# Altium integrated library con-vg.IntLib: 123 symbols (part 5 of 5)

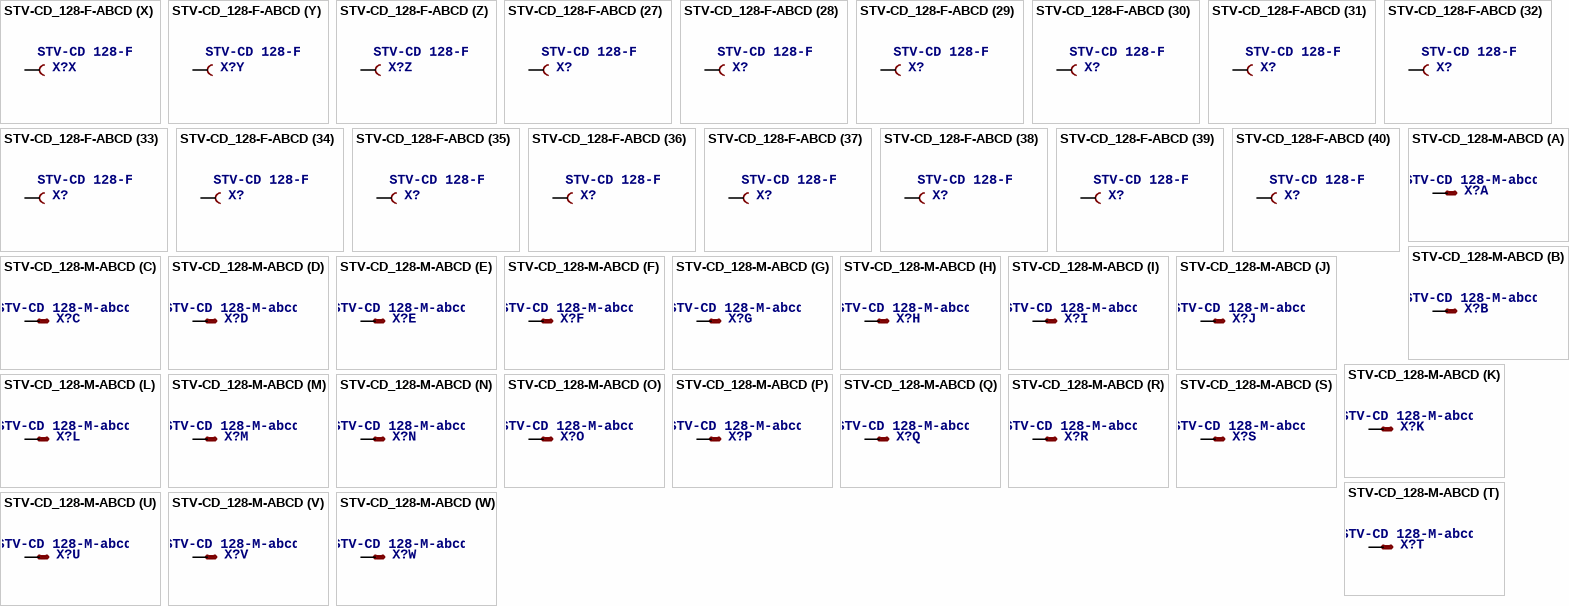
[diagram p92: symbols STV-CD_128-F-ABCD to STV-CD_128-M-ABCD]

## STV-CD_128-F-ABCD
designator X?, comment STV-CD 128-F-abcd   Source: http://www.erni.com/DB/PDF/DIN/ERNI-DIN-HighDensity.pdf
footprint STV-CD_128-F-ABCD
part A pins: A1 B
part B pins: A2 B
part C pins: A3 B
part D pins: A4 B
part E pins: A5 B
part F pins: A6 B
part G pins: A7 B
part H pins: A8 B
part I pins: A9 B
part J pins: A10 B
part K pins: A11 B
part L pins: A12 B
part M pins: A13 B
part N pins: A14 B
part O pins: A15 B
part P pins: A16 B
part Q pins: A17 B
part R pins: A18 B
part S pins: A19 B
part T pins: A20 B
part U pins: A21 B
part V pins: A22 B
part W pins: A23 B
part X pins: A24 B
part Y pins: A25 B
part Z pins: A26 B
part 27 pins: A27 B
part 28 pins: A28 B
part 29 pins: A29 B
part 30 pins: A30 B
part 31 pins: A31 B
part 32 pins: A32 B
part 33 pins: B1 B
part 34 pins: B2 B
part 35 pins: B3 B
part 36 pins: B4 B
part 37 pins: B5 B
part 38 pins: B6 B
part 39 pins: B7 B
part 40 pins: B8 B
part 41 pins: B9 B
part 42 pins: B10 B
part 43 pins: B11 B
part 44 pins: B12 B
part 45 pins: B13 B
part 46 pins: B14 B
part 47 pins: B15 B
part 48 pins: B16 B
part 49 pins: B17 B
part 50 pins: B18 B
part 51 pins: B19 B
part 52 pins: B20 B
part 53 pins: B21 B
part 54 pins: B22 B
part 55 pins: B23 B
part 56 pins: B24 B
part 57 pins: B25 B
part 58 pins: B26 B
part 59 pins: B27 B
part 60 pins: B28 B
part 61 pins: B29 B
part 62 pins: B30 B
part 63 pins: B31 B
part 64 pins: B32 B
part 65 pins: C1 B
part 66 pins: C2 B
part 67 pins: C3 B
part 68 pins: C4 B
part 69 pins: C5 B
part 70 pins: C6 B
part 71 pins: C7 B
part 72 pins: C8 B
part 73 pins: C9 B
part 74 pins: C10 B
part 75 pins: C11 B
part 76 pins: C12 B
part 77 pins: C13 B
part 78 pins: C14 B
part 79 pins: C15 B
part 80 pins: C16 B
part 81 pins: C17 B
part 82 pins: C18 B
part 83 pins: C19 B
part 84 pins: C20 B
part 85 pins: C21 B
part 86 pins: C22 B
part 87 pins: C23 B
part 88 pins: C24 B
part 89 pins: C25 B
part 90 pins: C26 B
part 91 pins: C27 B
part 92 pins: C28 B
part 93 pins: C29 B
part 94 pins: C30 B
part 95 pins: C31 B
part 96 pins: C32 B
part 97 pins: D1 B
part 98 pins: D2 B
part 99 pins: D3 B
part 100 pins: D4 B
part 101 pins: D5 B
part 102 pins: D6 B
part 103 pins: D7 B
part 104 pins: D8 B
part 105 pins: D9 B
part 106 pins: D10 B
part 107 pins: D11 B
part 108 pins: D12 B
part 109 pins: D13 B
part 110 pins: D14 B
part 111 pins: D15 B
part 112 pins: D16 B
part 113 pins: D17 B
part 114 pins: D18 B
part 115 pins: D19 B
part 116 pins: D20 B
part 117 pins: D21 B
part 118 pins: D22 B
part 119 pins: D23 B
part 120 pins: D24 B
part 121 pins: D25 B
part 122 pins: D26 B
part 123 pins: D27 B
part 124 pins: D28 B
part 125 pins: D29 B
part 126 pins: D30 B
part 127 pins: D31 B
part 128 pins: D32 B

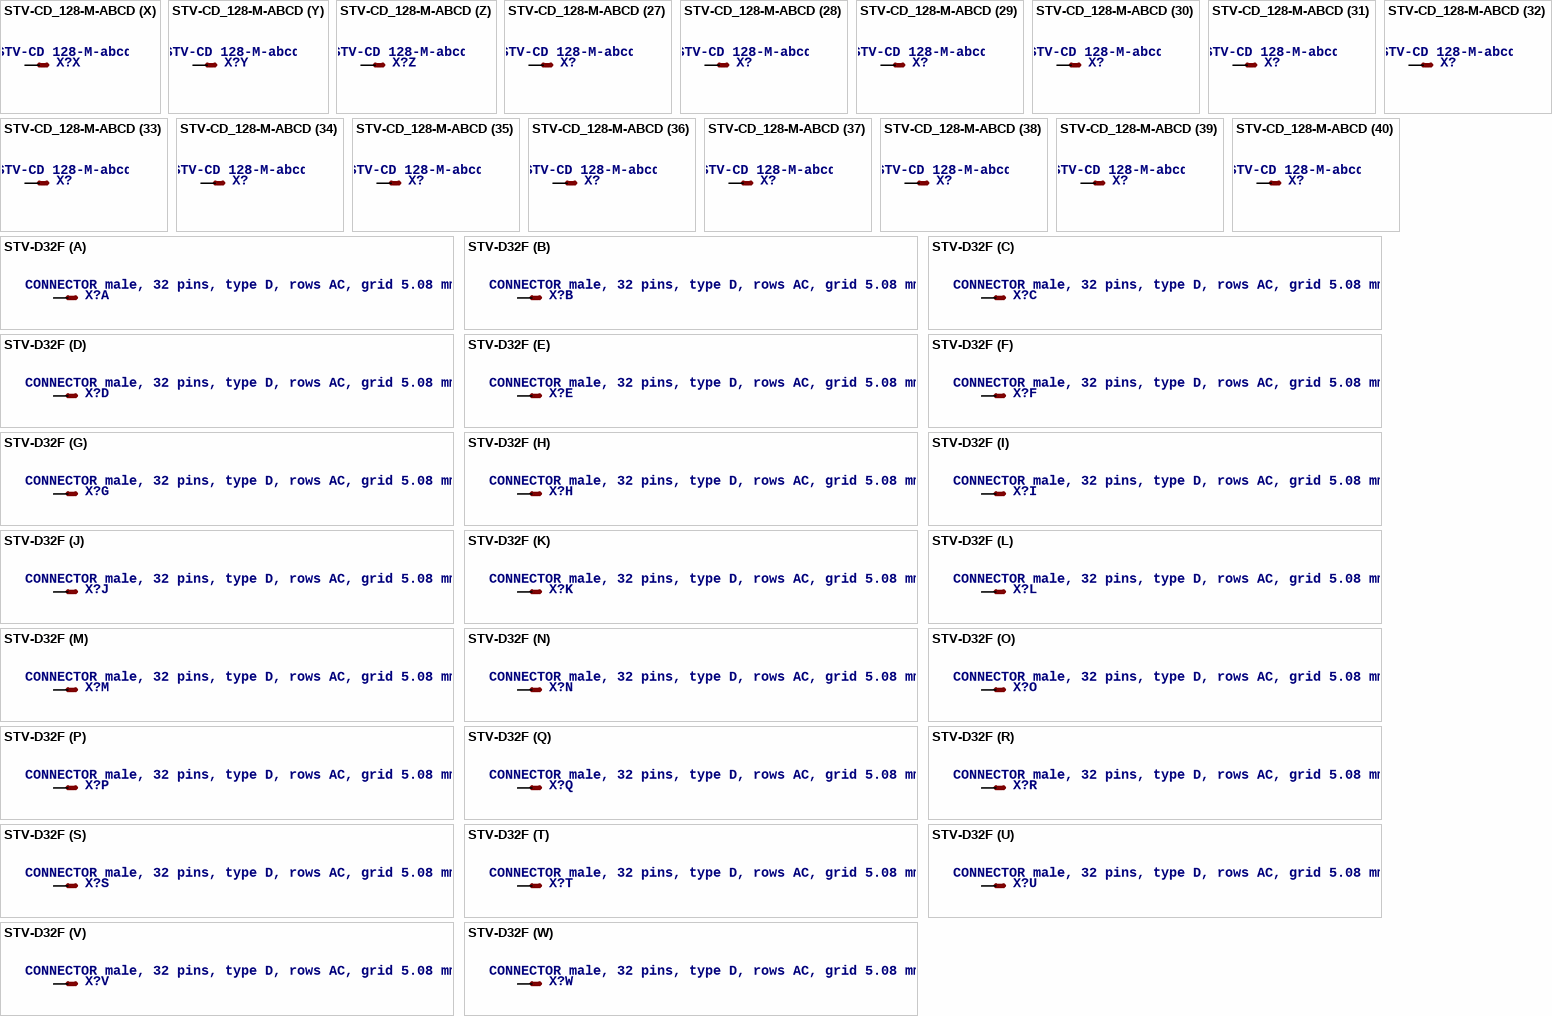
[diagram p93: symbols STV-CD_128-M-ABCD to STV-D32F]

## STV-CD_128-M-ABCD
designator X?, comment STV-CD 128-M-abcd   Source: http://www.erni.com/DB/PDF/DIN/ERNI-DIN-HighDensity.pdf
footprint STV-CD_128-M-ABCD
part A pins: A1 S
part B pins: A2 S
part C pins: A3 S
part D pins: A4 S
part E pins: A5 S
part F pins: A6 S
part G pins: A7 S
part H pins: A8 S
part I pins: A9 S
part J pins: A10 S
part K pins: A11 S
part L pins: A12 S
part M pins: A13 S
part N pins: A14 S
part O pins: A15 S
part P pins: A16 S
part Q pins: A17 S
part R pins: A18 S
part S pins: A19 S
part T pins: A20 S
part U pins: A21 S
part V pins: A22 S
part W pins: A23 S
part X pins: A24 S
part Y pins: A25 S
part Z pins: A26 S
part 27 pins: A27 S
part 28 pins: A28 S
part 29 pins: A29 S
part 30 pins: A30 S
part 31 pins: A31 S
part 32 pins: A32 S
part 33 pins: B1 S
part 34 pins: B2 S
part 35 pins: B3 S
part 36 pins: B4 S
part 37 pins: B5 S
part 38 pins: B6 S
part 39 pins: B7 S
part 40 pins: B8 S
part 41 pins: B9 S
part 42 pins: B10 S
part 43 pins: B11 S
part 44 pins: B12 S
part 45 pins: B13 S
part 46 pins: B14 S
part 47 pins: B15 S
part 48 pins: B16 S
part 49 pins: B17 S
part 50 pins: B18 S
part 51 pins: B19 S
part 52 pins: B20 S
part 53 pins: B21 S
part 54 pins: B22 S
part 55 pins: B23 S
part 56 pins: B24 S
part 57 pins: B25 S
part 58 pins: B26 S
part 59 pins: B27 S
part 60 pins: B28 S
part 61 pins: B29 S
part 62 pins: B30 S
part 63 pins: B31 S
part 64 pins: B32 S
part 65 pins: C1 S
part 66 pins: C2 S
part 67 pins: C3 S
part 68 pins: C4 S
part 69 pins: C5 S
part 70 pins: C6 S
part 71 pins: C7 S
part 72 pins: C8 S
part 73 pins: C9 S
part 74 pins: C10 S
part 75 pins: C11 S
part 76 pins: C12 S
part 77 pins: C13 S
part 78 pins: C14 S
part 79 pins: C15 S
part 80 pins: C16 S
part 81 pins: C17 S
part 82 pins: C18 S
part 83 pins: C19 S
part 84 pins: C20 S
part 85 pins: C21 S
part 86 pins: C22 S
part 87 pins: C23 S
part 88 pins: C24 S
part 89 pins: C25 S
part 90 pins: C26 S
part 91 pins: C27 S
part 92 pins: C28 S
part 93 pins: C29 S
part 94 pins: C30 S
part 95 pins: C31 S
part 96 pins: C32 S
part 97 pins: D1 S
part 98 pins: D2 S
part 99 pins: D3 S
part 100 pins: D4 S
part 101 pins: D5 S
part 102 pins: D6 S
part 103 pins: D7 S
part 104 pins: D8 S
part 105 pins: D9 S
part 106 pins: D10 S
part 107 pins: D11 S
part 108 pins: D12 S
part 109 pins: D13 S
part 110 pins: D14 S
part 111 pins: D15 S
part 112 pins: D16 S
part 113 pins: D17 S
part 114 pins: D18 S
part 115 pins: D19 S
part 116 pins: D20 S
part 117 pins: D21 S
part 118 pins: D22 S
part 119 pins: D23 S
part 120 pins: D24 S
part 121 pins: D25 S
part 122 pins: D26 S
part 123 pins: D27 S
part 124 pins: D28 S
part 125 pins: D29 S
part 126 pins: D30 S
part 127 pins: D31 S
part 128 pins: D32 S

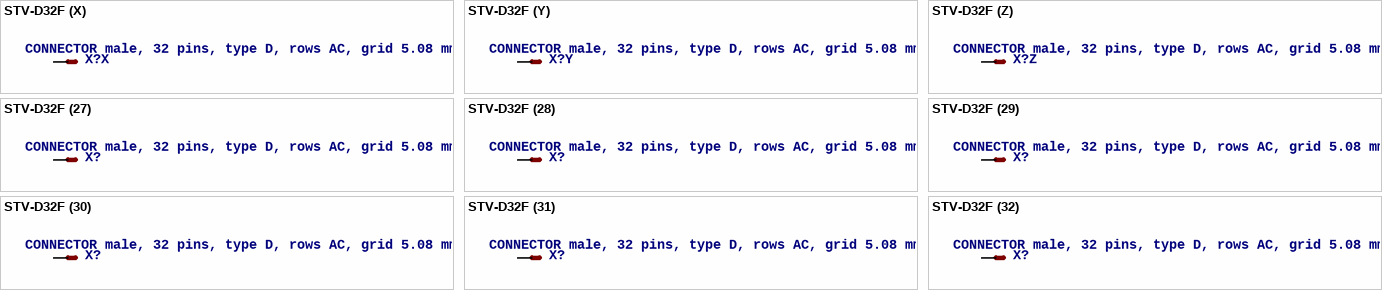
[diagram p94: symbol STV-D32F]

## STV-D32F
designator X?, comment CONNECTOR male, 32 pins, type D, rows AC, grid 5.08 mm
footprint STV-D32F
part A pins: A2 S
part B pins: A4 S
part C pins: A6 S
part D pins: A8 S
part E pins: A10 S
part F pins: A12 S
part G pins: A14 S
part H pins: A16 S
part I pins: A18 S
part J pins: A20 S
part K pins: A22 S
part L pins: A24 S
part M pins: A26 S
part N pins: A28 S
part O pins: A30 S
part P pins: A32 S
part Q pins: C2 S
part R pins: C4 S
part S pins: C6 S
part T pins: C8 S
part U pins: C10 S
part V pins: C12 S
part W pins: C14 S
part X pins: C16 S
part Y pins: C18 S
part Z pins: C20 S
part 27 pins: C22 S
part 28 pins: C24 S
part 29 pins: C26 S
part 30 pins: C28 S
part 31 pins: C30 S
part 32 pins: C32 S